# EAGLE library part W237-10P (library gate433)
WAGO SREW CLAMP
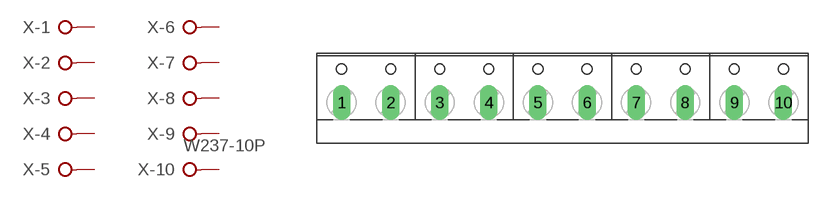
[diagram p9: symbol with the pads of W237-10P; footprint W237-10P]

Designator prefix X; gates -1=KL -2=KL -3=KL -4=KL -5=KL -6=KL -7=KL -8=KL -9=KL -10=KL+V

## W237-10P (OC_FARNELL: unknown; OC_NEWARK: unknown)  [W237-10P]
1  -1:KL  pas
2  -2:KL  pas
3  -3:KL  pas
4  -4:KL  pas
5  -5:KL  pas
6  -6:KL  pas
7  -7:KL  pas
8  -8:KL  pas
9  -9:KL  pas
10  -10:KL  pas

## Footprint W237-10P (pad centres in mm)
WAGO SREW CLAMP
drill 1.194 long: 1 -22.86,-0.635; 2 -17.78,-0.635; 3 -12.7,-0.635; 4 -7.62,-0.635; 5 -2.54,-0.635; 6 2.54,-0.635; 7 7.62,-0.635; 8 12.7,-0.635; 9 17.78,-0.635; 10 22.86,-0.635